# Altium integrated library DPC-28-360.IntLib: 1 symbol
Pins are listed as number, name and electrical type; pins without a type are passive.

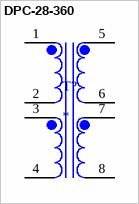
[diagram p0: symbol DPC-28-360]

## DPC-28-360
designator T?
Low Power Miniature Transformer | 10VA Power | 115V/230V Input | 10VCT Output Series; MP: DPC-28-360; Package: None; Price: None; Value: *; Availability: Unavailable
footprint XFMR_DPC-28-360
pins: 1, 2, 3, 4, 5, 6, 7, 8